# EAGLE library part BQ77915 (library BW-Active)
3-5s Lithium battery protection & management
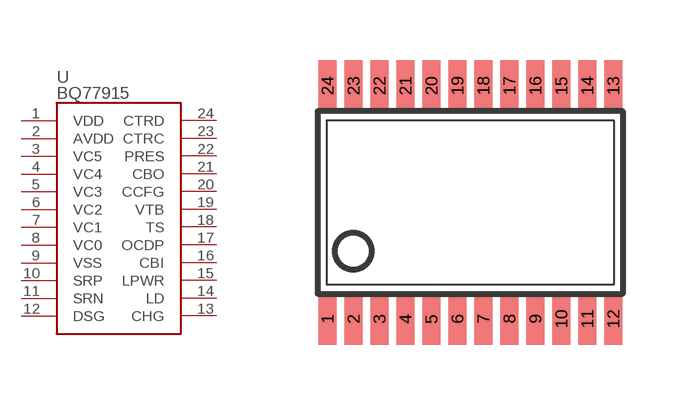
[diagram p36: symbol with the pads of TSSOP24; footprint TSSOP24]

Designator prefix U

## BQ77915  [TSSOP24]
1  VDD
2  AVDD
3  VC5
4  VC4
5  VC3
6  VC2
7  VC1
8  VC0
9  VSS
10  SRP
11  SRN
12  DSG
13  CHG
14  LD
15  LPWR
16  CBI
17  OCDP
18  TS
19  VTB
20  CCFG
21  CBO
22  PRES
23  CTRC
24  CTRD

## Footprint TSSOP24 (pad centres in mm)
Thin Shrink Small Outline Plastic 24 MAX3223-MAX3243.pdf
smd 0.45 x 1.3: 1 -3.575,-2.918; 2 -2.925,-2.918; 3 -2.275,-2.918; 4 -1.625,-2.918; 5 -0.975,-2.918; 6 -0.325,-2.918; 7 0.325,-2.918; 8 0.975,-2.918; 9 1.625,-2.918; 10 2.275,-2.918; 11 2.925,-2.918; 12 3.575,-2.918; 13 3.575,2.918; 14 2.925,2.918; 15 2.275,2.918; 16 1.625,2.918; 17 0.975,2.918; 18 0.325,2.918; 19 -0.325,2.918; 20 -0.975,2.918; 21 -1.625,2.918; 22 -2.275,2.918; 23 -2.925,2.918; 24 -3.575,2.918